# Altium footprint library PCB.PcbLib: 224 footprints (part 12 of 14)
Each footprint in its own frame and in the unit in brackets; x right, y up, seen from the top. Pads: shape width x height; smd on the part's side, far side on the other; paste and mask are expansions set on the pad; w line width, h text height; cw(c..) or ccw(c..) is an arc to the next point about the centre after c.
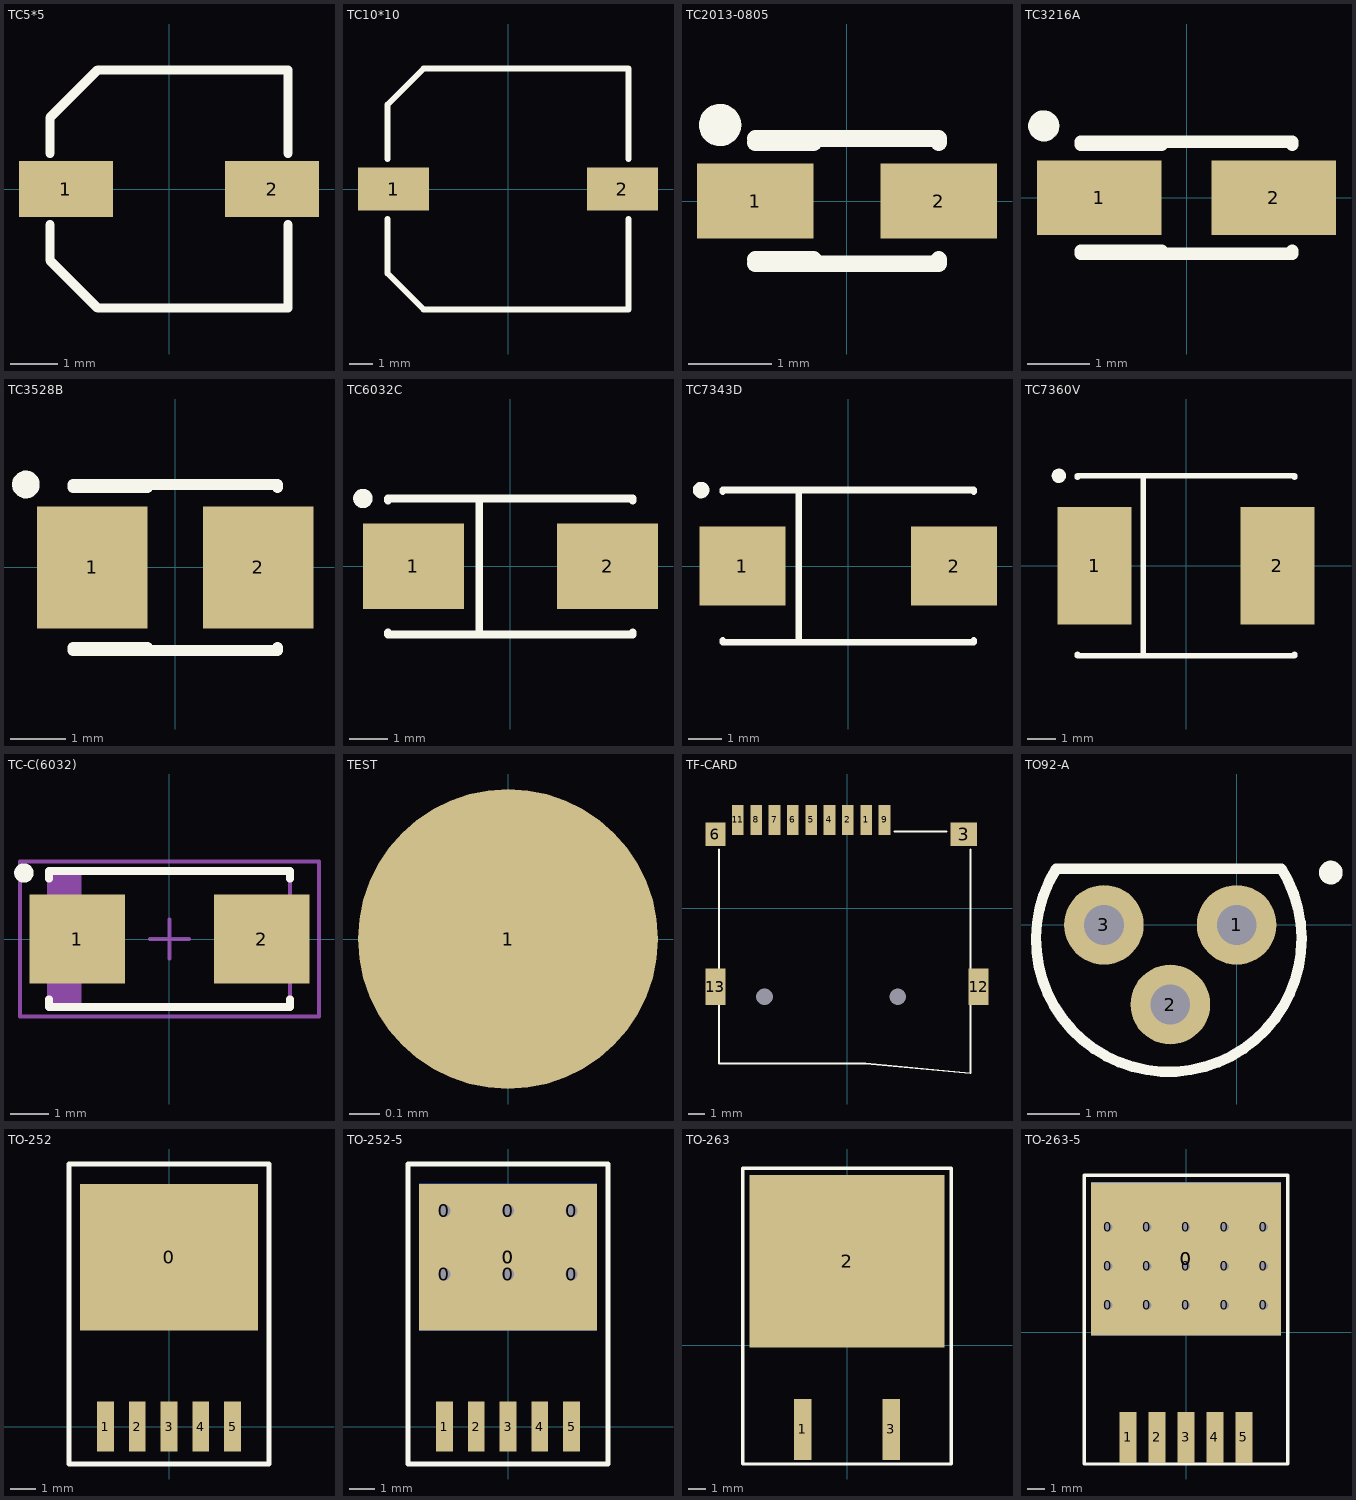
[diagram p11: the footprints below, top view; thin cyan lines are the x and y axes]

## TC5*5 [mm]
pads (2):
  rect 2x1.2 smd: 1(-2.2,0) 2(2.2,0)
Top Overlay:
  lines w0.2: -2.54,-0.762 -2.54,-1.524 -1.524,-2.54 2.54,-2.54 2.54,-0.762 ; -2.54,0.762 -2.54,1.524 -1.524,2.54 2.54,2.54 2.54,0.762

## TC10*10 [mm]
pads (2):
  rect 3x1.8 smd: 1(-4.826,0) 2(4.826,0)
Top Overlay:
  lines w0.254: -5.08,-1.27 -5.08,-3.556 -3.556,-5.08 5.08,-5.08 5.08,-1.27 ; -5.08,1.27 -5.08,3.556 -3.556,5.08 5.08,5.08 5.08,1.27

## TC2013-0805 [mm]
pads (2):
  rect 1.4x0.9 smd: 1(-1.1,0) 2(1.1,0)
Top Overlay:
  circle w0.254: c-1.523,0.913 r0.127
  lines w0.2: -1.1,-0.75 1.1,-0.75 1.1,-0.7 ; -1.1,-0.7 -0.4,-0.7 ; -1.1,0.7 -0.4,0.7 ; -1.1,0.75 1.1,0.75 1.1,0.7

## TC3216A [mm]
pads (2):
  rect 2x1.2 smd: 1(-1.4,0) 2(1.4,0)
Top Overlay:
  circle w0.25: c-2.294,1.152 r0.125
  lines w0.2: -1.7,-0.9 1.7,-0.9 1.7,-0.85 ; -1.7,-0.85 -0.4,-0.85 ; -1.7,0.85 -0.4,0.85 ; -1.7,0.9 1.7,0.9 1.7,0.85

## TC3528B [mm]
pads (2):
  rect 2x2.2 smd: 1(-1.5,0) 2(1.5,0)
Top Overlay:
  circle w0.25: c-2.7,1.5 r0.125
  lines w0.2: -1.85,-1.5 1.85,-1.5 1.85,-1.45 ; -1.85,-1.45 -0.5,-1.45 ; -1.85,1.45 -0.5,1.45 ; -1.85,1.5 1.85,1.5 1.85,1.45

## TC6032C [mm]
pads (2):
  rect 2.6x2.2 smd: 1(-2.5,0) 2(2.5,0)
Top Overlay:
  circle w0.25: c-3.8,1.75 r0.125
  lines w0.2: -3.15,-1.7 -3.15,-1.75 3.15,-1.75 3.15,-1.7 ; -3.15,1.7 -3.15,1.75 3.15,1.75 3.15,1.7 ; -0.8,-1.75 -0.8,1.75

## TC7343D [mm]
pads (2):
  rect 2.6x2.4 smd: 1(-3.2,0) 2(3.2,0)
Top Overlay:
  circle w0.25: c-4.45,2.3 r0.125
  lines w0.2: -3.8,-2.25 -3.8,-2.3 3.8,-2.3 3.8,-2.25 ; -3.8,2.25 -3.8,2.3 3.8,2.3 3.8,2.25 ; -1.5,-2.3 -1.5,2.3

## TC7360V [mm]
pads (2):
  rect 2.6x4.1 smd: 1(-3.2,0) 2(3.2,0)
Top Overlay:
  circle w0.25: c-4.45,3.15 r0.125
  lines w0.2: -3.8,-3.1 -3.8,-3.15 3.8,-3.15 3.8,-3.1 ; -3.8,3.1 -3.8,3.15 3.8,3.15 3.8,3.1 ; -1.5,-3.15 -1.5,3.15

## TC-C(6032) [mm] "Molded Capacitor, 2-Leads, Body 6.0x3.3mm, IPC Medium Density"
height 2.8
pads (2):
  rect 2.45x2.3 smd: 1(-2.375,0) 2(2.375,0)
Top Overlay:
  circle w0.25: c-3.75,1.7 r0.125
  lines w0.2: -3.1,-1.55 -3.1,-1.75 3.1,-1.75 3.1,-1.55 ; -3.1,1.55 -3.1,1.75 3.1,1.75 3.1,1.55
Mechanical 13:
  rectangle: -3.1,-1.7 -2.266,1.7
  lines w0.1: -3.1,-1.7 3.1,-1.7 3.1,1.7 -3.1,1.7 -3.1,-1.7
Mechanical 15:
  lines w0.1: -0.5,0 0.5,0 ; 0,-0.5 0,0.5 ; -3.85,-2 3.85,-2 3.85,2 -3.85,2 -3.85,-2
3D body: height 2.8, standoff 0, extent -3.1,-1.7 3.1,1.7

## TEST [mm]
pads (1):
  round 1 smd: 1(0,0)

## TF-CARD [mm]
pads (15):
  round 0 hole 1 unplated: 0(-4.95,-5.312) 0(3.05,-5.312)
  rect 0.7x1.8 smd: 1(1.15,5.313) 2(0.05,5.313) 4(-1.05,5.313) 5(-2.15,5.313) 6(-3.25,5.313) 7(-4.35,5.313) 8(-5.45,5.313) 9(2.25,5.313) 11(-6.55,5.313)
  rect 1.6x1.4 smd: 3(7,4.438)
  rect 1.2x1.4 smd: 6(-7.9,4.438)
  rect 1.2x2.2 smd: 12(7.9,-4.712) 13(-7.9,-4.712)
Top Overlay:
  lines w0.1: -7.681,3.545 -7.681,-9.312 1.132,-9.312 7.406,-9.896 ; 2.845,4.612 5.994,4.612 ; 7.406,-9.896 7.406,3.545
3D body: height 2.2, standoff 0.2, extent -7.874,-9.906 7.62,4.826

## TO92-A [mil]
pads (3):
  round 60 hole 30: 1(0,0) 2(-50,-60) 3(-100,0)
Top Overlay:
  circle w10: c70.87,39.37 r3.94
  lines w7.87: -135.95,42.33 ccw(c-51.15,-10.66) 33.66,42.33 -135.95,42.33

## TO-252 [mm]
pads (6):
  rect 7.1x5.85 smd: 0(0,6.775)
  rect 0.67x2 smd: 1(-2.54,0) 2(-1.27,0) 3(0,0) 4(1.27,0) 5(2.54,0)
Top Overlay:
  lines w0.2: -4,-1.5 4,-1.5 4,10.5 -4,10.5 -4,-1.5

## TO-252-5 [mm]
pads (13):
  round 1 hole 0.5: 0(-2.54,6.096) 0(-2.54,8.636) 0(0,6.096) 0(0,8.636) 0(2.54,6.096) 0(2.54,8.636)
  rect 7.1x5.85 smd: 0(0,6.775)
  rect 7.1x5.85 smd far side: 0(0,6.775)
  rect 0.67x2 smd: 1(-2.54,0) 2(-1.27,0) 3(0,0) 4(1.27,0) 5(2.54,0)
Top Overlay:
  lines w0.2: -4,-1.5 4,-1.5 4,10.5 -4,10.5 -4,-1.5

## TO-263 [mil]
pads (3):
  rect 39.37x137.8 smd: 1(-100,-190) 3(100,-190)
  rect 440x390 smd: 2(0,190)
Top Overlay:
  lines w7.87: -236.22,-268.43 -236.22,400.87 236.22,400.87 236.22,-268.43 -236.22,-268.43

## TO-263-5 [mm]
pads (22):
  round 1 hole 0.5: 0(-4.572,1.607) 0(-4.572,3.893) 0(-4.572,6.179) 0(-2.286,1.607) 0(-2.286,3.893) 0(-2.286,6.179) 0(0,1.607) 0(0,3.893) 0(0,6.179) 0(2.286,1.607) 0(2.286,3.893) 0(2.286,6.179) 0(4.572,1.607) 0(4.572,3.893) 0(4.572,6.179)
  rect 11.176x9 smd: 0(0,4.321)
  rect 11.176x9 smd far side: 0(0,4.321)
  rect 1x3 smd: 1(-3.404,-6.179) 2(-1.702,-6.179) 3(0,-6.179) 4(1.702,-6.179) 5(3.404,-6.179)
Top Overlay:
  lines w0.2: -6,-7.751 -6,9.249 6,9.249 6,-7.751 -6,-7.751